# Altium footprint library BATT-9V.PcbLib: 1 footprints
Each footprint in its own frame and in the unit in brackets; x right, y up, seen from the top. Pads: shape width x height; smd on the part's side, far side on the other; paste and mask are expansions set on the pad; w line width, h text height; cw(c..) or ccw(c..) is an arc to the next point about the centre after c.
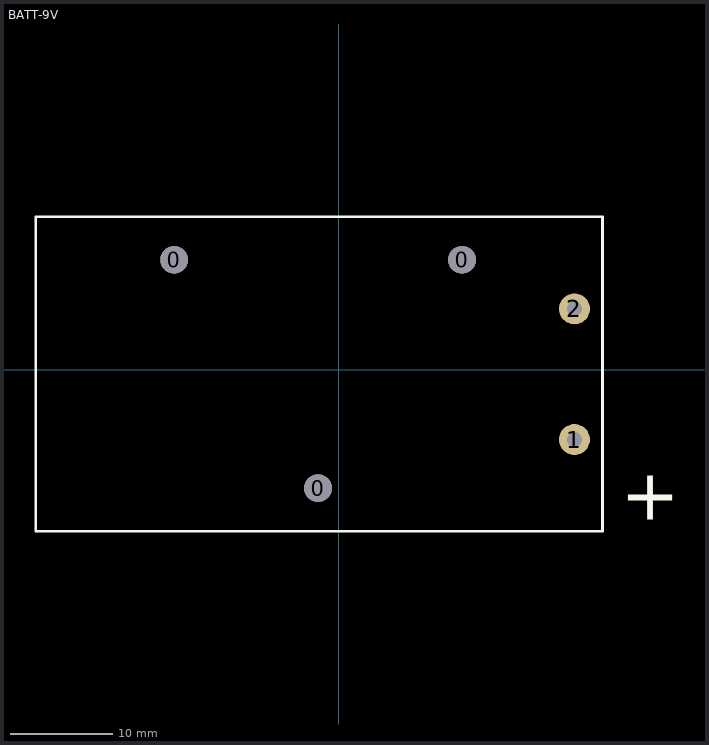
[diagram p0: the footprint, top view; thin cyan lines are the x and y axes]

## BATT-9V [mm]
pads (5):
  round 2.7 hole 2.7: 0(-16,10.675) 0(-2,-11.525) 0(12,10.675)
  round 3 hole 1.5: 1(22.925,-6.8) 2(22.925,5.9)
Top Overlay:
  lines w0.254: -29.45,-15.705 -29.45,14.85 25.65,14.85 25.65,-15.705 -29.45,-15.705
  text "+" at 27.425,-14.6 h5
3D body "BatteryHolder_9V_Eyelet_or_Pins.step": height 20.5, standoff -8.9, extent -29.25,-15.525 33.103,14.675